# EAGLE library part STM-TSSOP20 (library STM-tssop20)
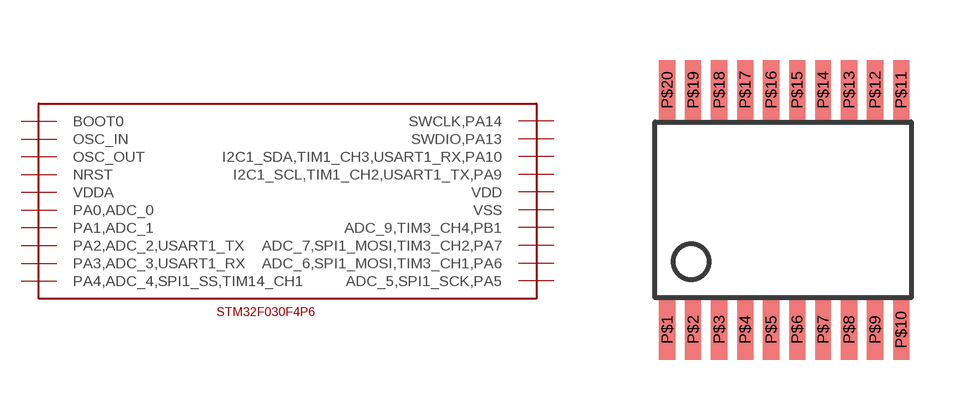
[diagram p0: symbol with the pads of STM-TSSOP20; footprint STM-TSSOP20]

Designator prefix -

## STM-TSSOP20  [STM-TSSOP20]
P$1  BOOT0
P$2  OSC_IN
P$3  OSC_OUT
P$4  NRST
P$5  VDDA
P$6  PA0,ADC_0
P$7  PA1,ADC_1
P$8  PA2,ADC_2,USART1_TX
P$9  PA3,ADC_3,USART1_RX
P$10  PA4,ADC_4,SPI1_SS,TIM14_CH1
P$11  ADC_5,SPI1_SCK,PA5
P$12  ADC_6,SPI1_MOSI,TIM3_CH1,PA6
P$13  ADC_7,SPI1_MOSI,TIM3_CH2,PA7
P$14  ADC_9,TIM3_CH4,PB1
P$15  VSS
P$16  VDD
P$17  I2C1_SCL,TIM1_CH2,USART1_TX,PA9
P$18  I2C1_SDA,TIM1_CH3,USART1_RX,PA10
P$19  SWDIO,PA13
P$20  SWCLK,PA14

## Footprint STM-TSSOP20 (pad centres in mm)
smd 0.4 x 1.5: P$1 -2.8,-3; P$2 -2.15,-3; P$3 -1.5,-3; P$4 -0.85,-3; P$5 -0.2,-3; P$6 0.45,-3; P$7 1.1,-3; P$8 1.75,-3; P$9 2.4,-3; P$10 3.05,-3; P$11 3.05,3; P$12 2.4,3; P$13 1.75,3; P$14 1.1,3; P$15 0.45,3; P$16 -0.2,3; P$17 -0.85,3; P$18 -1.5,3; P$19 -2.15,3; P$20 -2.8,3